# Altium footprint library Connector_PinHeader_2.00mm.PcbLib: 278 footprints (part 17 of 18)
Each footprint in its own frame and in the unit in brackets; x right, y up, seen from the top. Pads: shape width x height; smd on the part's side, far side on the other; paste and mask are expansions set on the pad; w line width, h text height; cw(c..) or ccw(c..) is an arc to the next point about the centre after c.
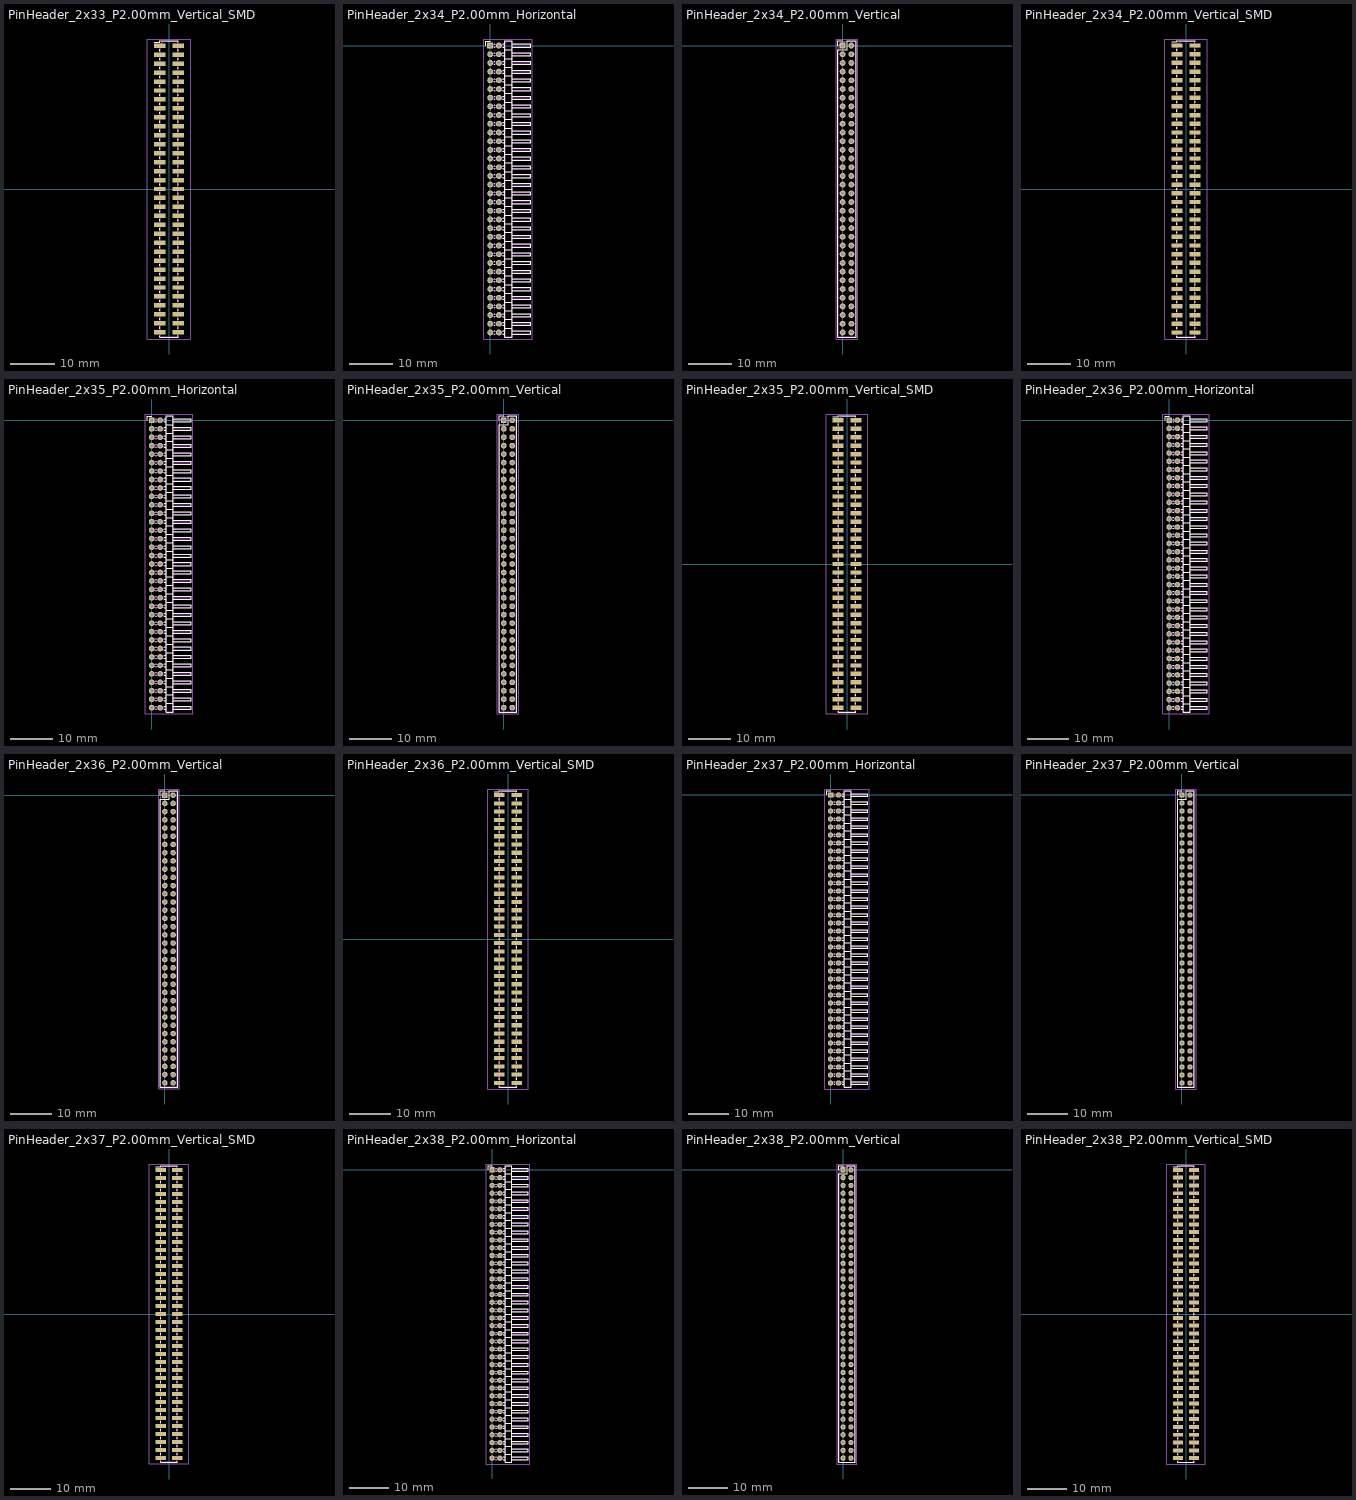
[diagram p16: the footprints below, top view; thin cyan lines are the x and y axes]

## PinHeader_2x33_P2.00mm_Vertical_SMD [mm]
pads (66):
  rect 2.58x1 smd: 1(-2.085,32) 2(2.085,32) 3(-2.085,30) 4(2.085,30) 5(-2.085,28) 6(2.085,28) 7(-2.085,26) 8(2.085,26) 9(-2.085,24) 10(2.085,24) 11(-2.085,22) 12(2.085,22) 13(-2.085,20) 14(2.085,20) 15(-2.085,18) 16(2.085,18) 17(-2.085,16) 18(2.085,16) 19(-2.085,14) 20(2.085,14) 21(-2.085,12) 22(2.085,12) 23(-2.085,10) 24(2.085,10) 25(-2.085,8) 26(2.085,8) 27(-2.085,6) 28(2.085,6) 29(-2.085,4) 30(2.085,4) 31(-2.085,2) 32(2.085,2) 33(-2.085,0) 34(2.085,0) 35(-2.085,-2) 36(2.085,-2) 37(-2.085,-4) 38(2.085,-4) 39(-2.085,-6) 40(2.085,-6) 41(-2.085,-8) 42(2.085,-8) 43(-2.085,-10) 44(2.085,-10) 45(-2.085,-12) 46(2.085,-12) 47(-2.085,-14) 48(2.085,-14) 49(-2.085,-16) 50(2.085,-16) 51(-2.085,-18) 52(2.085,-18) 53(-2.085,-20) 54(2.085,-20) 55(-2.085,-22) 56(2.085,-22) 57(-2.085,-24) 58(2.085,-24) 59(-2.085,-26) 60(2.085,-26) 61(-2.085,-28) 62(2.085,-28) 63(-2.085,-30) 64(2.085,-30) 65(-2.085,-32) 66(2.085,-32)
F.SilkS:
  lines w0.254: -3.315,32.81 -2.11,32.81 -2.11,33.11 2.11,33.11 2.11,32.81 ; -2.11,-32.81 -2.11,-33.11 2.11,-33.11 2.11,-32.81 ; -2.11,-31.19 -2.11,-30.81 ; -2.11,-29.19 -2.11,-28.81 ; -2.11,-27.19 -2.11,-26.81 ; -2.11,-25.19 -2.11,-24.81 ; -2.11,-23.19 -2.11,-22.81 ; -2.11,-21.19 -2.11,-20.81 ; -2.11,-19.19 -2.11,-18.81 ; -2.11,-17.19 -2.11,-16.81 ; -2.11,-15.19 -2.11,-14.81 ; -2.11,-13.19 -2.11,-12.81 ; -2.11,-11.19 -2.11,-10.81 ; -2.11,-9.19 -2.11,-8.81 ; -2.11,-7.19 -2.11,-6.81 ; -2.11,-5.19 -2.11,-4.81 ; -2.11,-3.19 -2.11,-2.81 ; -2.11,-1.19 -2.11,-0.81 ; -2.11,0.81 -2.11,1.19 ; -2.11,2.81 -2.11,3.19 ; -2.11,4.81 -2.11,5.19 ; -2.11,6.81 -2.11,7.19 ; -2.11,8.81 -2.11,9.19 ; -2.11,10.81 -2.11,11.19 ; -2.11,12.81 -2.11,13.19 ; -2.11,14.81 -2.11,15.19 ; -2.11,16.81 -2.11,17.19 ; -2.11,18.81 -2.11,19.19 ; -2.11,20.81 -2.11,21.19 ; -2.11,22.81 -2.11,23.19 ; -2.11,24.81 -2.11,25.19 ; -2.11,26.81 -2.11,27.19 ; -2.11,28.81 -2.11,29.19 ; -2.11,30.81 -2.11,31.19 ; 2.11,-31.19 2.11,-30.81 ; 2.11,-29.19 2.11,-28.81 ; 2.11,-27.19 2.11,-26.81 ; 2.11,-25.19 2.11,-24.81 ; 2.11,-23.19 2.11,-22.81 ; 2.11,-21.19 2.11,-20.81 ; 2.11,-19.19 2.11,-18.81 ; 2.11,-17.19 2.11,-16.81 ; 2.11,-15.19 2.11,-14.81 ; 2.11,-13.19 2.11,-12.81 ; 2.11,-11.19 2.11,-10.81 ; 2.11,-9.19 2.11,-8.81 ; 2.11,-7.19 2.11,-6.81 ; 2.11,-5.19 2.11,-4.81 ; 2.11,-3.19 2.11,-2.81 ; 2.11,-1.19 2.11,-0.81 ; 2.11,0.81 2.11,1.19 ; 2.11,2.81 2.11,3.19 ; 2.11,4.81 2.11,5.19 ; 2.11,6.81 2.11,7.19 ; 2.11,8.81 2.11,9.19 ; 2.11,10.81 2.11,11.19 ; 2.11,12.81 2.11,13.19 ; 2.11,14.81 2.11,15.19 ; 2.11,16.81 2.11,17.19 ; 2.11,18.81 2.11,19.19 ; 2.11,20.81 2.11,21.19 ; 2.11,22.81 2.11,23.19 ; 2.11,24.81 2.11,25.19 ; 2.11,26.81 2.11,27.19 ; 2.11,28.81 2.11,29.19 ; 2.11,30.81 2.11,31.19
Top Assembly:
  drawing of 203 lines, arcs and shapes, not listed
  text "'.Designator'" at 0.84,-4.047 h1
Top Courtyard:
  lines w0.254: -4.88,-33.5 4.88,-33.5 4.88,33.5 -4.88,33.5 -4.88,-33.5
Top Designator:
  text ".Designator" at -7.618,-0.508 h1.52

## PinHeader_2x34_P2.00mm_Horizontal [mm]
pads (68):
  rect 1.35x1.35 hole 0.8: 1(0,0)
  round 1.35 hole 0.8: 2(2,0) 3(0,-2) 4(2,-2) 5(0,-4) 6(2,-4) 7(0,-6) 8(2,-6) 9(0,-8) 10(2,-8) 11(0,-10) 12(2,-10) 13(0,-12) 14(2,-12) 15(0,-14) 16(2,-14) 17(0,-16) 18(2,-16) 19(0,-18) 20(2,-18) 21(0,-20) 22(2,-20) 23(0,-22) 24(2,-22) 25(0,-24) 26(2,-24) 27(0,-26) 28(2,-26) 29(0,-28) 30(2,-28) 31(0,-30) 32(2,-30) 33(0,-32) 34(2,-32) 35(0,-34) 36(2,-34) 37(0,-36) 38(2,-36) 39(0,-38) 40(2,-38) 41(0,-40) 42(2,-40) 43(0,-42) 44(2,-42) 45(0,-44) 46(2,-44) 47(0,-46) 48(2,-46) 49(0,-48) 50(2,-48) 51(0,-50) 52(2,-50) 53(0,-52) 54(2,-52) 55(0,-54) 56(2,-54) 57(0,-56) 58(2,-56) 59(0,-58) 60(2,-58) 61(0,-60) 62(2,-60) 63(0,-62) 64(2,-62) 65(0,-64) 66(2,-64) 67(0,-66) 68(2,-66)
F.SilkS:
  drawing of 278 lines, arcs and shapes, not listed
Top Assembly:
  drawing of 209 lines, arcs and shapes, not listed
  text "'.Designator'" at 5.006,-36.642 h0.9
Top Courtyard:
  lines w0.254: -1.5,-67.5 9.7,-67.5 9.7,1.5 -1.5,1.5 -1.5,-67.5
Top Designator:
  text ".Designator" at -3.518,-33.508 h1.52

## PinHeader_2x34_P2.00mm_Vertical [mm]
pads (68):
  rect 1.35x1.35 hole 0.8: 1(0,0)
  round 1.35 hole 0.8: 2(2,0) 3(0,-2) 4(2,-2) 5(0,-4) 6(2,-4) 7(0,-6) 8(2,-6) 9(0,-8) 10(2,-8) 11(0,-10) 12(2,-10) 13(0,-12) 14(2,-12) 15(0,-14) 16(2,-14) 17(0,-16) 18(2,-16) 19(0,-18) 20(2,-18) 21(0,-20) 22(2,-20) 23(0,-22) 24(2,-22) 25(0,-24) 26(2,-24) 27(0,-26) 28(2,-26) 29(0,-28) 30(2,-28) 31(0,-30) 32(2,-30) 33(0,-32) 34(2,-32) 35(0,-34) 36(2,-34) 37(0,-36) 38(2,-36) 39(0,-38) 40(2,-38) 41(0,-40) 42(2,-40) 43(0,-42) 44(2,-42) 45(0,-44) 46(2,-44) 47(0,-46) 48(2,-46) 49(0,-48) 50(2,-48) 51(0,-50) 52(2,-50) 53(0,-52) 54(2,-52) 55(0,-54) 56(2,-54) 57(0,-56) 58(2,-56) 59(0,-58) 60(2,-58) 61(0,-60) 62(2,-60) 63(0,-62) 64(2,-62) 65(0,-64) 66(2,-64) 67(0,-66) 68(2,-66)
F.SilkS:
  lines w0.254: -1.11,0 -1.11,1.11 0,1.11 ; -1.11,-67.11 3.11,-67.11 3.11,1.11 1,1.11 1,-1 -1.11,-1 -1.11,-67.11
Top Assembly:
  lines w0.254: -1,-67 3,-67 3,1 0,1 -1,0 -1,-67
  text "'.Designator'" at 1.84,-37.047 h1
Top Courtyard:
  lines w0.254: -1.5,-67.5 3.5,-67.5 3.5,1.5 -1.5,1.5 -1.5,-67.5
Top Designator:
  text ".Designator" at -6.618,-33.508 h1.52

## PinHeader_2x34_P2.00mm_Vertical_SMD [mm]
pads (68):
  rect 2.58x1 smd: 1(-2.085,33) 2(2.085,33) 3(-2.085,31) 4(2.085,31) 5(-2.085,29) 6(2.085,29) 7(-2.085,27) 8(2.085,27) 9(-2.085,25) 10(2.085,25) 11(-2.085,23) 12(2.085,23) 13(-2.085,21) 14(2.085,21) 15(-2.085,19) 16(2.085,19) 17(-2.085,17) 18(2.085,17) 19(-2.085,15) 20(2.085,15) 21(-2.085,13) 22(2.085,13) 23(-2.085,11) 24(2.085,11) 25(-2.085,9) 26(2.085,9) 27(-2.085,7) 28(2.085,7) 29(-2.085,5) 30(2.085,5) 31(-2.085,3) 32(2.085,3) 33(-2.085,1) 34(2.085,1) 35(-2.085,-1) 36(2.085,-1) 37(-2.085,-3) 38(2.085,-3) 39(-2.085,-5) 40(2.085,-5) 41(-2.085,-7) 42(2.085,-7) 43(-2.085,-9) 44(2.085,-9) 45(-2.085,-11) 46(2.085,-11) 47(-2.085,-13) 48(2.085,-13) 49(-2.085,-15) 50(2.085,-15) 51(-2.085,-17) 52(2.085,-17) 53(-2.085,-19) 54(2.085,-19) 55(-2.085,-21) 56(2.085,-21) 57(-2.085,-23) 58(2.085,-23) 59(-2.085,-25) 60(2.085,-25) 61(-2.085,-27) 62(2.085,-27) 63(-2.085,-29) 64(2.085,-29) 65(-2.085,-31) 66(2.085,-31) 67(-2.085,-33) 68(2.085,-33)
F.SilkS:
  lines w0.254: -3.315,33.81 -2.11,33.81 -2.11,34.11 2.11,34.11 2.11,33.81 ; -2.11,-33.81 -2.11,-34.11 2.11,-34.11 2.11,-33.81 ; -2.11,-32.19 -2.11,-31.81 ; -2.11,-30.19 -2.11,-29.81 ; -2.11,-28.19 -2.11,-27.81 ; -2.11,-26.19 -2.11,-25.81 ; -2.11,-24.19 -2.11,-23.81 ; -2.11,-22.19 -2.11,-21.81 ; -2.11,-20.19 -2.11,-19.81 ; -2.11,-18.19 -2.11,-17.81 ; -2.11,-16.19 -2.11,-15.81 ; -2.11,-14.19 -2.11,-13.81 ; -2.11,-12.19 -2.11,-11.81 ; -2.11,-10.19 -2.11,-9.81 ; -2.11,-8.19 -2.11,-7.81 ; -2.11,-6.19 -2.11,-5.81 ; -2.11,-4.19 -2.11,-3.81 ; -2.11,-2.19 -2.11,-1.81 ; -2.11,-0.19 -2.11,0.19 ; -2.11,1.81 -2.11,2.19 ; -2.11,3.81 -2.11,4.19 ; -2.11,5.81 -2.11,6.19 ; -2.11,7.81 -2.11,8.19 ; -2.11,9.81 -2.11,10.19 ; -2.11,11.81 -2.11,12.19 ; -2.11,13.81 -2.11,14.19 ; -2.11,15.81 -2.11,16.19 ; -2.11,17.81 -2.11,18.19 ; -2.11,19.81 -2.11,20.19 ; -2.11,21.81 -2.11,22.19 ; -2.11,23.81 -2.11,24.19 ; -2.11,25.81 -2.11,26.19 ; -2.11,27.81 -2.11,28.19 ; -2.11,29.81 -2.11,30.19 ; -2.11,31.81 -2.11,32.19 ; 2.11,-32.19 2.11,-31.81 ; 2.11,-30.19 2.11,-29.81 ; 2.11,-28.19 2.11,-27.81 ; 2.11,-26.19 2.11,-25.81 ; 2.11,-24.19 2.11,-23.81 ; 2.11,-22.19 2.11,-21.81 ; 2.11,-20.19 2.11,-19.81 ; 2.11,-18.19 2.11,-17.81 ; 2.11,-16.19 2.11,-15.81 ; 2.11,-14.19 2.11,-13.81 ; 2.11,-12.19 2.11,-11.81 ; 2.11,-10.19 2.11,-9.81 ; 2.11,-8.19 2.11,-7.81 ; 2.11,-6.19 2.11,-5.81 ; 2.11,-4.19 2.11,-3.81 ; 2.11,-2.19 2.11,-1.81 ; 2.11,-0.19 2.11,0.19 ; 2.11,1.81 2.11,2.19 ; 2.11,3.81 2.11,4.19 ; 2.11,5.81 2.11,6.19 ; 2.11,7.81 2.11,8.19 ; 2.11,9.81 2.11,10.19 ; 2.11,11.81 2.11,12.19 ; 2.11,13.81 2.11,14.19 ; 2.11,15.81 2.11,16.19 ; 2.11,17.81 2.11,18.19 ; 2.11,19.81 2.11,20.19 ; 2.11,21.81 2.11,22.19 ; 2.11,23.81 2.11,24.19 ; 2.11,25.81 2.11,26.19 ; 2.11,27.81 2.11,28.19 ; 2.11,29.81 2.11,30.19 ; 2.11,31.81 2.11,32.19
Top Assembly:
  drawing of 209 lines, arcs and shapes, not listed
  text "'.Designator'" at 0.84,-4.047 h1
Top Courtyard:
  lines w0.254: -4.88,-34.5 4.88,-34.5 4.88,34.5 -4.88,34.5 -4.88,-34.5
Top Designator:
  text ".Designator" at -7.618,-0.508 h1.52

## PinHeader_2x35_P2.00mm_Horizontal [mm]
pads (70):
  rect 1.35x1.35 hole 0.8: 1(0,0)
  round 1.35 hole 0.8: 2(2,0) 3(0,-2) 4(2,-2) 5(0,-4) 6(2,-4) 7(0,-6) 8(2,-6) 9(0,-8) 10(2,-8) 11(0,-10) 12(2,-10) 13(0,-12) 14(2,-12) 15(0,-14) 16(2,-14) 17(0,-16) 18(2,-16) 19(0,-18) 20(2,-18) 21(0,-20) 22(2,-20) 23(0,-22) 24(2,-22) 25(0,-24) 26(2,-24) 27(0,-26) 28(2,-26) 29(0,-28) 30(2,-28) 31(0,-30) 32(2,-30) 33(0,-32) 34(2,-32) 35(0,-34) 36(2,-34) 37(0,-36) 38(2,-36) 39(0,-38) 40(2,-38) 41(0,-40) 42(2,-40) 43(0,-42) 44(2,-42) 45(0,-44) 46(2,-44) 47(0,-46) 48(2,-46) 49(0,-48) 50(2,-48) 51(0,-50) 52(2,-50) 53(0,-52) 54(2,-52) 55(0,-54) 56(2,-54) 57(0,-56) 58(2,-56) 59(0,-58) 60(2,-58) 61(0,-60) 62(2,-60) 63(0,-62) 64(2,-62) 65(0,-64) 66(2,-64) 67(0,-66) 68(2,-66) 69(0,-68) 70(2,-68)
F.SilkS:
  drawing of 286 lines, arcs and shapes, not listed
Top Assembly:
  drawing of 215 lines, arcs and shapes, not listed
  text "'.Designator'" at 5.006,-37.642 h0.9
Top Courtyard:
  lines w0.254: -1.5,-69.5 9.7,-69.5 9.7,1.5 -1.5,1.5 -1.5,-69.5
Top Designator:
  text ".Designator" at -3.518,-34.508 h1.52

## PinHeader_2x35_P2.00mm_Vertical [mm]
pads (70):
  rect 1.35x1.35 hole 0.8: 1(0,0)
  round 1.35 hole 0.8: 2(2,0) 3(0,-2) 4(2,-2) 5(0,-4) 6(2,-4) 7(0,-6) 8(2,-6) 9(0,-8) 10(2,-8) 11(0,-10) 12(2,-10) 13(0,-12) 14(2,-12) 15(0,-14) 16(2,-14) 17(0,-16) 18(2,-16) 19(0,-18) 20(2,-18) 21(0,-20) 22(2,-20) 23(0,-22) 24(2,-22) 25(0,-24) 26(2,-24) 27(0,-26) 28(2,-26) 29(0,-28) 30(2,-28) 31(0,-30) 32(2,-30) 33(0,-32) 34(2,-32) 35(0,-34) 36(2,-34) 37(0,-36) 38(2,-36) 39(0,-38) 40(2,-38) 41(0,-40) 42(2,-40) 43(0,-42) 44(2,-42) 45(0,-44) 46(2,-44) 47(0,-46) 48(2,-46) 49(0,-48) 50(2,-48) 51(0,-50) 52(2,-50) 53(0,-52) 54(2,-52) 55(0,-54) 56(2,-54) 57(0,-56) 58(2,-56) 59(0,-58) 60(2,-58) 61(0,-60) 62(2,-60) 63(0,-62) 64(2,-62) 65(0,-64) 66(2,-64) 67(0,-66) 68(2,-66) 69(0,-68) 70(2,-68)
F.SilkS:
  lines w0.254: -1.11,0 -1.11,1.11 0,1.11 ; -1.11,-69.11 3.11,-69.11 3.11,1.11 1,1.11 1,-1 -1.11,-1 -1.11,-69.11
Top Assembly:
  lines w0.254: -1,-69 3,-69 3,1 0,1 -1,0 -1,-69
  text "'.Designator'" at 1.84,-38.047 h1
Top Courtyard:
  lines w0.254: -1.5,-69.5 3.5,-69.5 3.5,1.5 -1.5,1.5 -1.5,-69.5
Top Designator:
  text ".Designator" at -6.618,-34.508 h1.52

## PinHeader_2x35_P2.00mm_Vertical_SMD [mm]
pads (70):
  rect 2.58x1 smd: 1(-2.085,34) 2(2.085,34) 3(-2.085,32) 4(2.085,32) 5(-2.085,30) 6(2.085,30) 7(-2.085,28) 8(2.085,28) 9(-2.085,26) 10(2.085,26) 11(-2.085,24) 12(2.085,24) 13(-2.085,22) 14(2.085,22) 15(-2.085,20) 16(2.085,20) 17(-2.085,18) 18(2.085,18) 19(-2.085,16) 20(2.085,16) 21(-2.085,14) 22(2.085,14) 23(-2.085,12) 24(2.085,12) 25(-2.085,10) 26(2.085,10) 27(-2.085,8) 28(2.085,8) 29(-2.085,6) 30(2.085,6) 31(-2.085,4) 32(2.085,4) 33(-2.085,2) 34(2.085,2) 35(-2.085,0) 36(2.085,0) 37(-2.085,-2) 38(2.085,-2) 39(-2.085,-4) 40(2.085,-4) 41(-2.085,-6) 42(2.085,-6) 43(-2.085,-8) 44(2.085,-8) 45(-2.085,-10) 46(2.085,-10) 47(-2.085,-12) 48(2.085,-12) 49(-2.085,-14) 50(2.085,-14) 51(-2.085,-16) 52(2.085,-16) 53(-2.085,-18) 54(2.085,-18) 55(-2.085,-20) 56(2.085,-20) 57(-2.085,-22) 58(2.085,-22) 59(-2.085,-24) 60(2.085,-24) 61(-2.085,-26) 62(2.085,-26) 63(-2.085,-28) 64(2.085,-28) 65(-2.085,-30) 66(2.085,-30) 67(-2.085,-32) 68(2.085,-32) 69(-2.085,-34) 70(2.085,-34)
F.SilkS:
  lines w0.254: -3.315,34.81 -2.11,34.81 -2.11,35.11 2.11,35.11 2.11,34.81 ; -2.11,-34.81 -2.11,-35.11 2.11,-35.11 2.11,-34.81 ; -2.11,-33.19 -2.11,-32.81 ; -2.11,-31.19 -2.11,-30.81 ; -2.11,-29.19 -2.11,-28.81 ; -2.11,-27.19 -2.11,-26.81 ; -2.11,-25.19 -2.11,-24.81 ; -2.11,-23.19 -2.11,-22.81 ; -2.11,-21.19 -2.11,-20.81 ; -2.11,-19.19 -2.11,-18.81 ; -2.11,-17.19 -2.11,-16.81 ; -2.11,-15.19 -2.11,-14.81 ; -2.11,-13.19 -2.11,-12.81 ; -2.11,-11.19 -2.11,-10.81 ; -2.11,-9.19 -2.11,-8.81 ; -2.11,-7.19 -2.11,-6.81 ; -2.11,-5.19 -2.11,-4.81 ; -2.11,-3.19 -2.11,-2.81 ; -2.11,-1.19 -2.11,-0.81 ; -2.11,0.81 -2.11,1.19 ; -2.11,2.81 -2.11,3.19 ; -2.11,4.81 -2.11,5.19 ; -2.11,6.81 -2.11,7.19 ; -2.11,8.81 -2.11,9.19 ; -2.11,10.81 -2.11,11.19 ; -2.11,12.81 -2.11,13.19 ; -2.11,14.81 -2.11,15.19 ; -2.11,16.81 -2.11,17.19 ; -2.11,18.81 -2.11,19.19 ; -2.11,20.81 -2.11,21.19 ; -2.11,22.81 -2.11,23.19 ; -2.11,24.81 -2.11,25.19 ; -2.11,26.81 -2.11,27.19 ; -2.11,28.81 -2.11,29.19 ; -2.11,30.81 -2.11,31.19 ; -2.11,32.81 -2.11,33.19 ; 2.11,-33.19 2.11,-32.81 ; 2.11,-31.19 2.11,-30.81 ; 2.11,-29.19 2.11,-28.81 ; 2.11,-27.19 2.11,-26.81 ; 2.11,-25.19 2.11,-24.81 ; 2.11,-23.19 2.11,-22.81 ; 2.11,-21.19 2.11,-20.81 ; 2.11,-19.19 2.11,-18.81 ; 2.11,-17.19 2.11,-16.81 ; 2.11,-15.19 2.11,-14.81 ; 2.11,-13.19 2.11,-12.81 ; 2.11,-11.19 2.11,-10.81 ; 2.11,-9.19 2.11,-8.81 ; 2.11,-7.19 2.11,-6.81 ; 2.11,-5.19 2.11,-4.81 ; 2.11,-3.19 2.11,-2.81 ; 2.11,-1.19 2.11,-0.81 ; 2.11,0.81 2.11,1.19 ; 2.11,2.81 2.11,3.19 ; 2.11,4.81 2.11,5.19 ; 2.11,6.81 2.11,7.19 ; 2.11,8.81 2.11,9.19 ; 2.11,10.81 2.11,11.19 ; 2.11,12.81 2.11,13.19 ; 2.11,14.81 2.11,15.19 ; 2.11,16.81 2.11,17.19 ; 2.11,18.81 2.11,19.19 ; 2.11,20.81 2.11,21.19 ; 2.11,22.81 2.11,23.19 ; 2.11,24.81 2.11,25.19 ; 2.11,26.81 2.11,27.19 ; 2.11,28.81 2.11,29.19 ; 2.11,30.81 2.11,31.19 ; 2.11,32.81 2.11,33.19
Top Assembly:
  drawing of 215 lines, arcs and shapes, not listed
  text "'.Designator'" at 0.84,-4.047 h1
Top Courtyard:
  lines w0.254: -4.88,-35.5 4.88,-35.5 4.88,35.5 -4.88,35.5 -4.88,-35.5
Top Designator:
  text ".Designator" at -7.618,-0.508 h1.52

## PinHeader_2x36_P2.00mm_Horizontal [mm]
pads (72):
  rect 1.35x1.35 hole 0.8: 1(0,0)
  round 1.35 hole 0.8: 2(2,0) 3(0,-2) 4(2,-2) 5(0,-4) 6(2,-4) 7(0,-6) 8(2,-6) 9(0,-8) 10(2,-8) 11(0,-10) 12(2,-10) 13(0,-12) 14(2,-12) 15(0,-14) 16(2,-14) 17(0,-16) 18(2,-16) 19(0,-18) 20(2,-18) 21(0,-20) 22(2,-20) 23(0,-22) 24(2,-22) 25(0,-24) 26(2,-24) 27(0,-26) 28(2,-26) 29(0,-28) 30(2,-28) 31(0,-30) 32(2,-30) 33(0,-32) 34(2,-32) 35(0,-34) 36(2,-34) 37(0,-36) 38(2,-36) 39(0,-38) 40(2,-38) 41(0,-40) 42(2,-40) 43(0,-42) 44(2,-42) 45(0,-44) 46(2,-44) 47(0,-46) 48(2,-46) 49(0,-48) 50(2,-48) 51(0,-50) 52(2,-50) 53(0,-52) 54(2,-52) 55(0,-54) 56(2,-54) 57(0,-56) 58(2,-56) 59(0,-58) 60(2,-58) 61(0,-60) 62(2,-60) 63(0,-62) 64(2,-62) 65(0,-64) 66(2,-64) 67(0,-66) 68(2,-66) 69(0,-68) 70(2,-68) 71(0,-70) 72(2,-70)
F.SilkS:
  drawing of 294 lines, arcs and shapes, not listed
Top Assembly:
  drawing of 221 lines, arcs and shapes, not listed
  text "'.Designator'" at 5.006,-38.642 h0.9
Top Courtyard:
  lines w0.254: -1.5,-71.5 9.7,-71.5 9.7,1.5 -1.5,1.5 -1.5,-71.5
Top Designator:
  text ".Designator" at -3.518,-35.508 h1.52

## PinHeader_2x36_P2.00mm_Vertical [mm]
pads (72):
  rect 1.35x1.35 hole 0.8: 1(0,0)
  round 1.35 hole 0.8: 2(2,0) 3(0,-2) 4(2,-2) 5(0,-4) 6(2,-4) 7(0,-6) 8(2,-6) 9(0,-8) 10(2,-8) 11(0,-10) 12(2,-10) 13(0,-12) 14(2,-12) 15(0,-14) 16(2,-14) 17(0,-16) 18(2,-16) 19(0,-18) 20(2,-18) 21(0,-20) 22(2,-20) 23(0,-22) 24(2,-22) 25(0,-24) 26(2,-24) 27(0,-26) 28(2,-26) 29(0,-28) 30(2,-28) 31(0,-30) 32(2,-30) 33(0,-32) 34(2,-32) 35(0,-34) 36(2,-34) 37(0,-36) 38(2,-36) 39(0,-38) 40(2,-38) 41(0,-40) 42(2,-40) 43(0,-42) 44(2,-42) 45(0,-44) 46(2,-44) 47(0,-46) 48(2,-46) 49(0,-48) 50(2,-48) 51(0,-50) 52(2,-50) 53(0,-52) 54(2,-52) 55(0,-54) 56(2,-54) 57(0,-56) 58(2,-56) 59(0,-58) 60(2,-58) 61(0,-60) 62(2,-60) 63(0,-62) 64(2,-62) 65(0,-64) 66(2,-64) 67(0,-66) 68(2,-66) 69(0,-68) 70(2,-68) 71(0,-70) 72(2,-70)
F.SilkS:
  lines w0.254: -1.11,0 -1.11,1.11 0,1.11 ; -1.11,-71.11 3.11,-71.11 3.11,1.11 1,1.11 1,-1 -1.11,-1 -1.11,-71.11
Top Assembly:
  lines w0.254: -1,-71 3,-71 3,1 0,1 -1,0 -1,-71
  text "'.Designator'" at 1.84,-39.047 h1
Top Courtyard:
  lines w0.254: -1.5,-71.5 3.5,-71.5 3.5,1.5 -1.5,1.5 -1.5,-71.5
Top Designator:
  text ".Designator" at -6.618,-35.508 h1.52

## PinHeader_2x36_P2.00mm_Vertical_SMD [mm]
pads (72):
  rect 2.58x1 smd: 1(-2.085,35) 2(2.085,35) 3(-2.085,33) 4(2.085,33) 5(-2.085,31) 6(2.085,31) 7(-2.085,29) 8(2.085,29) 9(-2.085,27) 10(2.085,27) 11(-2.085,25) 12(2.085,25) 13(-2.085,23) 14(2.085,23) 15(-2.085,21) 16(2.085,21) 17(-2.085,19) 18(2.085,19) 19(-2.085,17) 20(2.085,17) 21(-2.085,15) 22(2.085,15) 23(-2.085,13) 24(2.085,13) 25(-2.085,11) 26(2.085,11) 27(-2.085,9) 28(2.085,9) 29(-2.085,7) 30(2.085,7) 31(-2.085,5) 32(2.085,5) 33(-2.085,3) 34(2.085,3) 35(-2.085,1) 36(2.085,1) 37(-2.085,-1) 38(2.085,-1) 39(-2.085,-3) 40(2.085,-3) 41(-2.085,-5) 42(2.085,-5) 43(-2.085,-7) 44(2.085,-7) 45(-2.085,-9) 46(2.085,-9) 47(-2.085,-11) 48(2.085,-11) 49(-2.085,-13) 50(2.085,-13) 51(-2.085,-15) 52(2.085,-15) 53(-2.085,-17) 54(2.085,-17) 55(-2.085,-19) 56(2.085,-19) 57(-2.085,-21) 58(2.085,-21) 59(-2.085,-23) 60(2.085,-23) 61(-2.085,-25) 62(2.085,-25) 63(-2.085,-27) 64(2.085,-27) 65(-2.085,-29) 66(2.085,-29) 67(-2.085,-31) 68(2.085,-31) 69(-2.085,-33) 70(2.085,-33) 71(-2.085,-35) 72(2.085,-35)
F.SilkS:
  lines w0.254: -3.315,35.81 -2.11,35.81 -2.11,36.11 2.11,36.11 2.11,35.81 ; -2.11,-35.81 -2.11,-36.11 2.11,-36.11 2.11,-35.81 ; -2.11,-34.19 -2.11,-33.81 ; -2.11,-32.19 -2.11,-31.81 ; -2.11,-30.19 -2.11,-29.81 ; -2.11,-28.19 -2.11,-27.81 ; -2.11,-26.19 -2.11,-25.81 ; -2.11,-24.19 -2.11,-23.81 ; -2.11,-22.19 -2.11,-21.81 ; -2.11,-20.19 -2.11,-19.81 ; -2.11,-18.19 -2.11,-17.81 ; -2.11,-16.19 -2.11,-15.81 ; -2.11,-14.19 -2.11,-13.81 ; -2.11,-12.19 -2.11,-11.81 ; -2.11,-10.19 -2.11,-9.81 ; -2.11,-8.19 -2.11,-7.81 ; -2.11,-6.19 -2.11,-5.81 ; -2.11,-4.19 -2.11,-3.81 ; -2.11,-2.19 -2.11,-1.81 ; -2.11,-0.19 -2.11,0.19 ; -2.11,1.81 -2.11,2.19 ; -2.11,3.81 -2.11,4.19 ; -2.11,5.81 -2.11,6.19 ; -2.11,7.81 -2.11,8.19 ; -2.11,9.81 -2.11,10.19 ; -2.11,11.81 -2.11,12.19 ; -2.11,13.81 -2.11,14.19 ; -2.11,15.81 -2.11,16.19 ; -2.11,17.81 -2.11,18.19 ; -2.11,19.81 -2.11,20.19 ; -2.11,21.81 -2.11,22.19 ; -2.11,23.81 -2.11,24.19 ; -2.11,25.81 -2.11,26.19 ; -2.11,27.81 -2.11,28.19 ; -2.11,29.81 -2.11,30.19 ; -2.11,31.81 -2.11,32.19 ; -2.11,33.81 -2.11,34.19 ; 2.11,-34.19 2.11,-33.81 ; 2.11,-32.19 2.11,-31.81 ; 2.11,-30.19 2.11,-29.81 ; 2.11,-28.19 2.11,-27.81 ; 2.11,-26.19 2.11,-25.81 ; 2.11,-24.19 2.11,-23.81 ; 2.11,-22.19 2.11,-21.81 ; 2.11,-20.19 2.11,-19.81 ; 2.11,-18.19 2.11,-17.81 ; 2.11,-16.19 2.11,-15.81 ; 2.11,-14.19 2.11,-13.81 ; 2.11,-12.19 2.11,-11.81 ; 2.11,-10.19 2.11,-9.81 ; 2.11,-8.19 2.11,-7.81 ; 2.11,-6.19 2.11,-5.81 ; 2.11,-4.19 2.11,-3.81 ; 2.11,-2.19 2.11,-1.81 ; 2.11,-0.19 2.11,0.19 ; 2.11,1.81 2.11,2.19 ; 2.11,3.81 2.11,4.19 ; 2.11,5.81 2.11,6.19 ; 2.11,7.81 2.11,8.19 ; 2.11,9.81 2.11,10.19 ; 2.11,11.81 2.11,12.19 ; 2.11,13.81 2.11,14.19 ; 2.11,15.81 2.11,16.19 ; 2.11,17.81 2.11,18.19 ; 2.11,19.81 2.11,20.19 ; 2.11,21.81 2.11,22.19 ; 2.11,23.81 2.11,24.19 ; 2.11,25.81 2.11,26.19 ; 2.11,27.81 2.11,28.19 ; 2.11,29.81 2.11,30.19 ; 2.11,31.81 2.11,32.19 ; 2.11,33.81 2.11,34.19
Top Assembly:
  drawing of 221 lines, arcs and shapes, not listed
  text "'.Designator'" at 0.84,-4.047 h1
Top Courtyard:
  lines w0.254: -4.88,-36.5 4.88,-36.5 4.88,36.5 -4.88,36.5 -4.88,-36.5
Top Designator:
  text ".Designator" at -7.618,-0.508 h1.52

## PinHeader_2x37_P2.00mm_Horizontal [mm]
pads (74):
  rect 1.35x1.35 hole 0.8: 1(0,0)
  round 1.35 hole 0.8: 2(2,0) 3(0,-2) 4(2,-2) 5(0,-4) 6(2,-4) 7(0,-6) 8(2,-6) 9(0,-8) 10(2,-8) 11(0,-10) 12(2,-10) 13(0,-12) 14(2,-12) 15(0,-14) 16(2,-14) 17(0,-16) 18(2,-16) 19(0,-18) 20(2,-18) 21(0,-20) 22(2,-20) 23(0,-22) 24(2,-22) 25(0,-24) 26(2,-24) 27(0,-26) 28(2,-26) 29(0,-28) 30(2,-28) 31(0,-30) 32(2,-30) 33(0,-32) 34(2,-32) 35(0,-34) 36(2,-34) 37(0,-36) 38(2,-36) 39(0,-38) 40(2,-38) 41(0,-40) 42(2,-40) 43(0,-42) 44(2,-42) 45(0,-44) 46(2,-44) 47(0,-46) 48(2,-46) 49(0,-48) 50(2,-48) 51(0,-50) 52(2,-50) 53(0,-52) 54(2,-52) 55(0,-54) 56(2,-54) 57(0,-56) 58(2,-56) 59(0,-58) 60(2,-58) 61(0,-60) 62(2,-60) 63(0,-62) 64(2,-62) 65(0,-64) 66(2,-64) 67(0,-66) 68(2,-66) 69(0,-68) 70(2,-68) 71(0,-70) 72(2,-70) 73(0,-72) 74(2,-72)
F.SilkS:
  drawing of 302 lines, arcs and shapes, not listed
Top Assembly:
  drawing of 227 lines, arcs and shapes, not listed
  text "'.Designator'" at 5.006,-39.642 h0.9
Top Courtyard:
  lines w0.254: -1.5,-73.5 9.7,-73.5 9.7,1.5 -1.5,1.5 -1.5,-73.5
Top Designator:
  text ".Designator" at -3.518,-36.508 h1.52

## PinHeader_2x37_P2.00mm_Vertical [mm]
pads (74):
  rect 1.35x1.35 hole 0.8: 1(0,0)
  round 1.35 hole 0.8: 2(2,0) 3(0,-2) 4(2,-2) 5(0,-4) 6(2,-4) 7(0,-6) 8(2,-6) 9(0,-8) 10(2,-8) 11(0,-10) 12(2,-10) 13(0,-12) 14(2,-12) 15(0,-14) 16(2,-14) 17(0,-16) 18(2,-16) 19(0,-18) 20(2,-18) 21(0,-20) 22(2,-20) 23(0,-22) 24(2,-22) 25(0,-24) 26(2,-24) 27(0,-26) 28(2,-26) 29(0,-28) 30(2,-28) 31(0,-30) 32(2,-30) 33(0,-32) 34(2,-32) 35(0,-34) 36(2,-34) 37(0,-36) 38(2,-36) 39(0,-38) 40(2,-38) 41(0,-40) 42(2,-40) 43(0,-42) 44(2,-42) 45(0,-44) 46(2,-44) 47(0,-46) 48(2,-46) 49(0,-48) 50(2,-48) 51(0,-50) 52(2,-50) 53(0,-52) 54(2,-52) 55(0,-54) 56(2,-54) 57(0,-56) 58(2,-56) 59(0,-58) 60(2,-58) 61(0,-60) 62(2,-60) 63(0,-62) 64(2,-62) 65(0,-64) 66(2,-64) 67(0,-66) 68(2,-66) 69(0,-68) 70(2,-68) 71(0,-70) 72(2,-70) 73(0,-72) 74(2,-72)
F.SilkS:
  lines w0.254: -1.11,0 -1.11,1.11 0,1.11 ; -1.11,-73.11 3.11,-73.11 3.11,1.11 1,1.11 1,-1 -1.11,-1 -1.11,-73.11
Top Assembly:
  lines w0.254: -1,-73 3,-73 3,1 0,1 -1,0 -1,-73
  text "'.Designator'" at 1.84,-40.047 h1
Top Courtyard:
  lines w0.254: -1.5,-73.5 3.5,-73.5 3.5,1.5 -1.5,1.5 -1.5,-73.5
Top Designator:
  text ".Designator" at -6.618,-36.508 h1.52

## PinHeader_2x37_P2.00mm_Vertical_SMD [mm]
pads (74):
  rect 2.58x1 smd: 1(-2.085,36) 2(2.085,36) 3(-2.085,34) 4(2.085,34) 5(-2.085,32) 6(2.085,32) 7(-2.085,30) 8(2.085,30) 9(-2.085,28) 10(2.085,28) 11(-2.085,26) 12(2.085,26) 13(-2.085,24) 14(2.085,24) 15(-2.085,22) 16(2.085,22) 17(-2.085,20) 18(2.085,20) 19(-2.085,18) 20(2.085,18) 21(-2.085,16) 22(2.085,16) 23(-2.085,14) 24(2.085,14) 25(-2.085,12) 26(2.085,12) 27(-2.085,10) 28(2.085,10) 29(-2.085,8) 30(2.085,8) 31(-2.085,6) 32(2.085,6) 33(-2.085,4) 34(2.085,4) 35(-2.085,2) 36(2.085,2) 37(-2.085,0) 38(2.085,0) 39(-2.085,-2) 40(2.085,-2) 41(-2.085,-4) 42(2.085,-4) 43(-2.085,-6) 44(2.085,-6) 45(-2.085,-8) 46(2.085,-8) 47(-2.085,-10) 48(2.085,-10) 49(-2.085,-12) 50(2.085,-12) 51(-2.085,-14) 52(2.085,-14) 53(-2.085,-16) 54(2.085,-16) 55(-2.085,-18) 56(2.085,-18) 57(-2.085,-20) 58(2.085,-20) 59(-2.085,-22) 60(2.085,-22) 61(-2.085,-24) 62(2.085,-24) 63(-2.085,-26) 64(2.085,-26) 65(-2.085,-28) 66(2.085,-28) 67(-2.085,-30) 68(2.085,-30) 69(-2.085,-32) 70(2.085,-32) 71(-2.085,-34) 72(2.085,-34) 73(-2.085,-36) 74(2.085,-36)
F.SilkS:
  lines w0.254: -3.315,36.81 -2.11,36.81 -2.11,37.11 2.11,37.11 2.11,36.81 ; -2.11,-36.81 -2.11,-37.11 2.11,-37.11 2.11,-36.81 ; -2.11,-35.19 -2.11,-34.81 ; -2.11,-33.19 -2.11,-32.81 ; -2.11,-31.19 -2.11,-30.81 ; -2.11,-29.19 -2.11,-28.81 ; -2.11,-27.19 -2.11,-26.81 ; -2.11,-25.19 -2.11,-24.81 ; -2.11,-23.19 -2.11,-22.81 ; -2.11,-21.19 -2.11,-20.81 ; -2.11,-19.19 -2.11,-18.81 ; -2.11,-17.19 -2.11,-16.81 ; -2.11,-15.19 -2.11,-14.81 ; -2.11,-13.19 -2.11,-12.81 ; -2.11,-11.19 -2.11,-10.81 ; -2.11,-9.19 -2.11,-8.81 ; -2.11,-7.19 -2.11,-6.81 ; -2.11,-5.19 -2.11,-4.81 ; -2.11,-3.19 -2.11,-2.81 ; -2.11,-1.19 -2.11,-0.81 ; -2.11,0.81 -2.11,1.19 ; -2.11,2.81 -2.11,3.19 ; -2.11,4.81 -2.11,5.19 ; -2.11,6.81 -2.11,7.19 ; -2.11,8.81 -2.11,9.19 ; -2.11,10.81 -2.11,11.19 ; -2.11,12.81 -2.11,13.19 ; -2.11,14.81 -2.11,15.19 ; -2.11,16.81 -2.11,17.19 ; -2.11,18.81 -2.11,19.19 ; -2.11,20.81 -2.11,21.19 ; -2.11,22.81 -2.11,23.19 ; -2.11,24.81 -2.11,25.19 ; -2.11,26.81 -2.11,27.19 ; -2.11,28.81 -2.11,29.19 ; -2.11,30.81 -2.11,31.19 ; -2.11,32.81 -2.11,33.19 ; -2.11,34.81 -2.11,35.19 ; 2.11,-35.19 2.11,-34.81 ; 2.11,-33.19 2.11,-32.81 ; 2.11,-31.19 2.11,-30.81 ; 2.11,-29.19 2.11,-28.81 ; 2.11,-27.19 2.11,-26.81 ; 2.11,-25.19 2.11,-24.81 ; 2.11,-23.19 2.11,-22.81 ; 2.11,-21.19 2.11,-20.81 ; 2.11,-19.19 2.11,-18.81 ; 2.11,-17.19 2.11,-16.81 ; 2.11,-15.19 2.11,-14.81 ; 2.11,-13.19 2.11,-12.81 ; 2.11,-11.19 2.11,-10.81 ; 2.11,-9.19 2.11,-8.81 ; 2.11,-7.19 2.11,-6.81 ; 2.11,-5.19 2.11,-4.81 ; 2.11,-3.19 2.11,-2.81 ; 2.11,-1.19 2.11,-0.81 ; 2.11,0.81 2.11,1.19 ; 2.11,2.81 2.11,3.19 ; 2.11,4.81 2.11,5.19 ; 2.11,6.81 2.11,7.19 ; 2.11,8.81 2.11,9.19 ; 2.11,10.81 2.11,11.19 ; 2.11,12.81 2.11,13.19 ; 2.11,14.81 2.11,15.19 ; 2.11,16.81 2.11,17.19 ; 2.11,18.81 2.11,19.19 ; 2.11,20.81 2.11,21.19 ; 2.11,22.81 2.11,23.19 ; 2.11,24.81 2.11,25.19 ; 2.11,26.81 2.11,27.19 ; 2.11,28.81 2.11,29.19 ; 2.11,30.81 2.11,31.19 ; 2.11,32.81 2.11,33.19 ; 2.11,34.81 2.11,35.19
Top Assembly:
  drawing of 227 lines, arcs and shapes, not listed
  text "'.Designator'" at 0.84,-4.047 h1
Top Courtyard:
  lines w0.254: -4.88,-37.5 4.88,-37.5 4.88,37.5 -4.88,37.5 -4.88,-37.5
Top Designator:
  text ".Designator" at -7.618,-0.508 h1.52

## PinHeader_2x38_P2.00mm_Horizontal [mm]
pads (76):
  rect 1.35x1.35 hole 0.8: 1(0,0)
  round 1.35 hole 0.8: 2(2,0) 3(0,-2) 4(2,-2) 5(0,-4) 6(2,-4) 7(0,-6) 8(2,-6) 9(0,-8) 10(2,-8) 11(0,-10) 12(2,-10) 13(0,-12) 14(2,-12) 15(0,-14) 16(2,-14) 17(0,-16) 18(2,-16) 19(0,-18) 20(2,-18) 21(0,-20) 22(2,-20) 23(0,-22) 24(2,-22) 25(0,-24) 26(2,-24) 27(0,-26) 28(2,-26) 29(0,-28) 30(2,-28) 31(0,-30) 32(2,-30) 33(0,-32) 34(2,-32) 35(0,-34) 36(2,-34) 37(0,-36) 38(2,-36) 39(0,-38) 40(2,-38) 41(0,-40) 42(2,-40) 43(0,-42) 44(2,-42) 45(0,-44) 46(2,-44) 47(0,-46) 48(2,-46) 49(0,-48) 50(2,-48) 51(0,-50) 52(2,-50) 53(0,-52) 54(2,-52) 55(0,-54) 56(2,-54) 57(0,-56) 58(2,-56) 59(0,-58) 60(2,-58) 61(0,-60) 62(2,-60) 63(0,-62) 64(2,-62) 65(0,-64) 66(2,-64) 67(0,-66) 68(2,-66) 69(0,-68) 70(2,-68) 71(0,-70) 72(2,-70) 73(0,-72) 74(2,-72) 75(0,-74) 76(2,-74)
F.SilkS:
  drawing of 310 lines, arcs and shapes, not listed
Top Assembly:
  drawing of 233 lines, arcs and shapes, not listed
  text "'.Designator'" at 5.006,-40.642 h0.9
Top Courtyard:
  lines w0.254: -1.5,-75.5 9.7,-75.5 9.7,1.5 -1.5,1.5 -1.5,-75.5
Top Designator:
  text ".Designator" at -3.518,-37.508 h1.52

## PinHeader_2x38_P2.00mm_Vertical [mm]
pads (76):
  rect 1.35x1.35 hole 0.8: 1(0,0)
  round 1.35 hole 0.8: 2(2,0) 3(0,-2) 4(2,-2) 5(0,-4) 6(2,-4) 7(0,-6) 8(2,-6) 9(0,-8) 10(2,-8) 11(0,-10) 12(2,-10) 13(0,-12) 14(2,-12) 15(0,-14) 16(2,-14) 17(0,-16) 18(2,-16) 19(0,-18) 20(2,-18) 21(0,-20) 22(2,-20) 23(0,-22) 24(2,-22) 25(0,-24) 26(2,-24) 27(0,-26) 28(2,-26) 29(0,-28) 30(2,-28) 31(0,-30) 32(2,-30) 33(0,-32) 34(2,-32) 35(0,-34) 36(2,-34) 37(0,-36) 38(2,-36) 39(0,-38) 40(2,-38) 41(0,-40) 42(2,-40) 43(0,-42) 44(2,-42) 45(0,-44) 46(2,-44) 47(0,-46) 48(2,-46) 49(0,-48) 50(2,-48) 51(0,-50) 52(2,-50) 53(0,-52) 54(2,-52) 55(0,-54) 56(2,-54) 57(0,-56) 58(2,-56) 59(0,-58) 60(2,-58) 61(0,-60) 62(2,-60) 63(0,-62) 64(2,-62) 65(0,-64) 66(2,-64) 67(0,-66) 68(2,-66) 69(0,-68) 70(2,-68) 71(0,-70) 72(2,-70) 73(0,-72) 74(2,-72) 75(0,-74) 76(2,-74)
F.SilkS:
  lines w0.254: -1.11,0 -1.11,1.11 0,1.11 ; -1.11,-75.11 3.11,-75.11 3.11,1.11 1,1.11 1,-1 -1.11,-1 -1.11,-75.11
Top Assembly:
  lines w0.254: -1,-75 3,-75 3,1 0,1 -1,0 -1,-75
  text "'.Designator'" at 1.84,-41.047 h1
Top Courtyard:
  lines w0.254: -1.5,-75.5 3.5,-75.5 3.5,1.5 -1.5,1.5 -1.5,-75.5
Top Designator:
  text ".Designator" at -6.618,-37.508 h1.52

## PinHeader_2x38_P2.00mm_Vertical_SMD [mm]
pads (76):
  rect 2.58x1 smd: 1(-2.085,37) 2(2.085,37) 3(-2.085,35) 4(2.085,35) 5(-2.085,33) 6(2.085,33) 7(-2.085,31) 8(2.085,31) 9(-2.085,29) 10(2.085,29) 11(-2.085,27) 12(2.085,27) 13(-2.085,25) 14(2.085,25) 15(-2.085,23) 16(2.085,23) 17(-2.085,21) 18(2.085,21) 19(-2.085,19) 20(2.085,19) 21(-2.085,17) 22(2.085,17) 23(-2.085,15) 24(2.085,15) 25(-2.085,13) 26(2.085,13) 27(-2.085,11) 28(2.085,11) 29(-2.085,9) 30(2.085,9) 31(-2.085,7) 32(2.085,7) 33(-2.085,5) 34(2.085,5) 35(-2.085,3) 36(2.085,3) 37(-2.085,1) 38(2.085,1) 39(-2.085,-1) 40(2.085,-1) 41(-2.085,-3) 42(2.085,-3) 43(-2.085,-5) 44(2.085,-5) 45(-2.085,-7) 46(2.085,-7) 47(-2.085,-9) 48(2.085,-9) 49(-2.085,-11) 50(2.085,-11) 51(-2.085,-13) 52(2.085,-13) 53(-2.085,-15) 54(2.085,-15) 55(-2.085,-17) 56(2.085,-17) 57(-2.085,-19) 58(2.085,-19) 59(-2.085,-21) 60(2.085,-21) 61(-2.085,-23) 62(2.085,-23) 63(-2.085,-25) 64(2.085,-25) 65(-2.085,-27) 66(2.085,-27) 67(-2.085,-29) 68(2.085,-29) 69(-2.085,-31) 70(2.085,-31) 71(-2.085,-33) 72(2.085,-33) 73(-2.085,-35) 74(2.085,-35) 75(-2.085,-37) 76(2.085,-37)
F.SilkS:
  lines w0.254: -3.315,37.81 -2.11,37.81 -2.11,38.11 2.11,38.11 2.11,37.81 ; -2.11,-37.81 -2.11,-38.11 2.11,-38.11 2.11,-37.81 ; -2.11,-36.19 -2.11,-35.81 ; -2.11,-34.19 -2.11,-33.81 ; -2.11,-32.19 -2.11,-31.81 ; -2.11,-30.19 -2.11,-29.81 ; -2.11,-28.19 -2.11,-27.81 ; -2.11,-26.19 -2.11,-25.81 ; -2.11,-24.19 -2.11,-23.81 ; -2.11,-22.19 -2.11,-21.81 ; -2.11,-20.19 -2.11,-19.81 ; -2.11,-18.19 -2.11,-17.81 ; -2.11,-16.19 -2.11,-15.81 ; -2.11,-14.19 -2.11,-13.81 ; -2.11,-12.19 -2.11,-11.81 ; -2.11,-10.19 -2.11,-9.81 ; -2.11,-8.19 -2.11,-7.81 ; -2.11,-6.19 -2.11,-5.81 ; -2.11,-4.19 -2.11,-3.81 ; -2.11,-2.19 -2.11,-1.81 ; -2.11,-0.19 -2.11,0.19 ; -2.11,1.81 -2.11,2.19 ; -2.11,3.81 -2.11,4.19 ; -2.11,5.81 -2.11,6.19 ; -2.11,7.81 -2.11,8.19 ; -2.11,9.81 -2.11,10.19 ; -2.11,11.81 -2.11,12.19 ; -2.11,13.81 -2.11,14.19 ; -2.11,15.81 -2.11,16.19 ; -2.11,17.81 -2.11,18.19 ; -2.11,19.81 -2.11,20.19 ; -2.11,21.81 -2.11,22.19 ; -2.11,23.81 -2.11,24.19 ; -2.11,25.81 -2.11,26.19 ; -2.11,27.81 -2.11,28.19 ; -2.11,29.81 -2.11,30.19 ; -2.11,31.81 -2.11,32.19 ; -2.11,33.81 -2.11,34.19 ; -2.11,35.81 -2.11,36.19 ; 2.11,-36.19 2.11,-35.81 ; 2.11,-34.19 2.11,-33.81 ; 2.11,-32.19 2.11,-31.81 ; 2.11,-30.19 2.11,-29.81 ; 2.11,-28.19 2.11,-27.81 ; 2.11,-26.19 2.11,-25.81 ; 2.11,-24.19 2.11,-23.81 ; 2.11,-22.19 2.11,-21.81 ; 2.11,-20.19 2.11,-19.81 ; 2.11,-18.19 2.11,-17.81 ; 2.11,-16.19 2.11,-15.81 ; 2.11,-14.19 2.11,-13.81 ; 2.11,-12.19 2.11,-11.81 ; 2.11,-10.19 2.11,-9.81 ; 2.11,-8.19 2.11,-7.81 ; 2.11,-6.19 2.11,-5.81 ; 2.11,-4.19 2.11,-3.81 ; 2.11,-2.19 2.11,-1.81 ; 2.11,-0.19 2.11,0.19 ; 2.11,1.81 2.11,2.19 ; 2.11,3.81 2.11,4.19 ; 2.11,5.81 2.11,6.19 ; 2.11,7.81 2.11,8.19 ; 2.11,9.81 2.11,10.19 ; 2.11,11.81 2.11,12.19 ; 2.11,13.81 2.11,14.19 ; 2.11,15.81 2.11,16.19 ; 2.11,17.81 2.11,18.19 ; 2.11,19.81 2.11,20.19 ; 2.11,21.81 2.11,22.19 ; 2.11,23.81 2.11,24.19 ; 2.11,25.81 2.11,26.19 ; 2.11,27.81 2.11,28.19 ; 2.11,29.81 2.11,30.19 ; 2.11,31.81 2.11,32.19 ; 2.11,33.81 2.11,34.19 ; 2.11,35.81 2.11,36.19
Top Assembly:
  drawing of 233 lines, arcs and shapes, not listed
  text "'.Designator'" at 0.84,-4.047 h1
Top Courtyard:
  lines w0.254: -4.88,-38.5 4.88,-38.5 4.88,38.5 -4.88,38.5 -4.88,-38.5
Top Designator:
  text ".Designator" at -7.618,-0.508 h1.52